# Altium schematic symbol library PartsDatabaseV16.1.SchLib: 101 symbols (part 1 of 2)
Pins are listed as number, name and electrical type; pins without a type are passive.

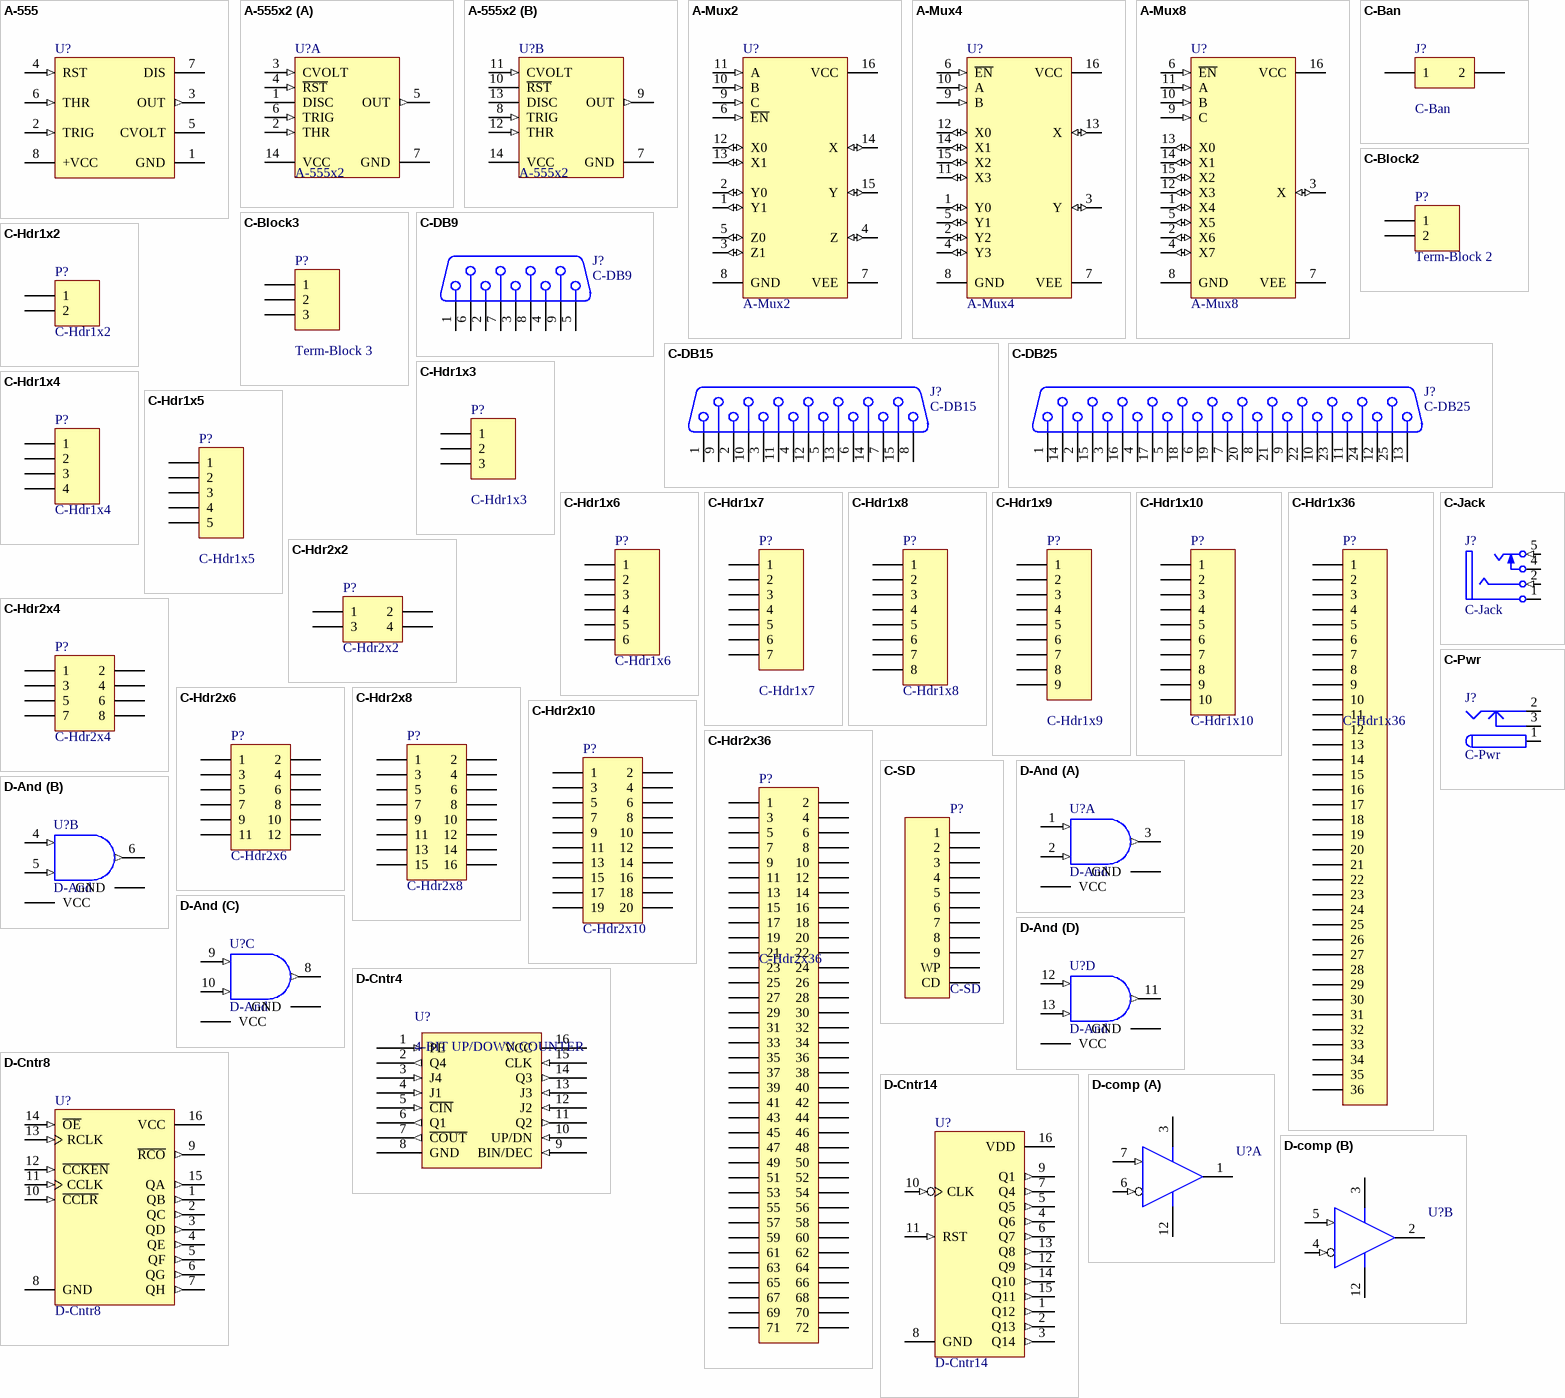
[diagram p0: symbols A-555 to D-comp]

## A-555
designator U?
555 timer (single); PartNumber: LM555CN; Manufacturer: FairChild Semiconductor; CompType: Analog IC; PackageTopMarking: NSUZXYTT*LM*555CN; PowerWise: N; Published: 4-Dec-2008; DatasheetVersion: Jan-2013; PackageVersion: revG, May-2006; PackageReference: N08E; Publisher: Altium Limited; PackageDescription: MDIP, .365 x .250 x .130in, 8 Lead, .100in Pitch; PinCount: 8; DigiKeyPartNumber: LM555CNNS-ND; Code_JEDEC: MS-001-BA; ComponentLink2Description: LM555 Web Page; ComponentLink2URL: http://www.national.com/pf/LM/LM555.html; ComponentLink3Description: N08E package page; ComponentLink3URL: http://www.national.com/packaging/folders/n08e.html; ComponentLink1Description: LM555 Datasheet (ELEC391); ComponentLink1URL: https://www.fairchildsemi.com/datasheets/LM/LM555.pdf
footprint DIP8_SML0.8 (DIP, 8-Leads, Row Spacing 7.62mm, Pitch 2.54mm, Body 9.91x6.35mm)
footprint DIP8_LGE1.0 (DIP, 8-Leads, Row Spacing 7.62mm, Pitch 2.54mm, Body 9.91x6.35mm)
simulation model 555 (555 MCE)
pins: 1 GND (power), 2 TRIG (in), 3 OUT (out), 4 RST (in), 5 CVOLT, 6 THR (in), 7 DIS (oc), 8 +VCC (power)

## A-555x2
designator U?
555 timer (dual); Published: 16-Jan-2001; LatestRevisionDate: 04-Mar-2005; LatestRevisionNote: Stylized 3D Model Added.; DatasheetVersion: Dec-1999; PackageVersion: Oct-1995; PackageReference: N014; Publisher: Altium Limited; PackageDescription: DIP; 14 Leads; Row Spacing 7.62 mm; Pitch 2.54 mm; ComponentLink1Description: Manufacturer Link; ComponentLink1URL: http://www.ti.com/; ComponentLink2Description: Datasheet (ELEC391); ComponentLink2URL: http://www-s.ti.com/sc/ds/ne556.pdf
footprint DIP14_SML0.8 (DIP; 14 Leads; Row Spacing 7.62 mm; Pitch 2.54 mm)
footprint DIP14_LGE1.0 (DIP; 14 Leads; Row Spacing 7.62 mm; Pitch 2.54 mm)
pins on every part: 7 GND (power), 14 VCC (power)
part A pins: 1 DISC (oc), 2 THR (in), 3 CVOLT (in), 4 ~{RST} (in), 5 OUT (out), 6 TRIG (in)
part B pins: 8 TRIG (in), 9 OUT (out), 10 ~{RST}, 11 CVOLT (in), 12 THR (in), 13 DISC (oc)

## A-Mux2
designator U?
Triple 2x1 mux (analog); Published: 17-Jul-2002; LatestRevisionDate: 29-May-2009; LatestRevisionNote: Component Body Added.; DatasheetVersion: May-1999; PackageVersion: 2000; PackageReference: N16E; Publisher: Altium Limited; PackageDescription: DIP, 16-Pin, Row Spacing 7.62 mm, Pitch 2.54 mm; ComponentLink1Description: Manufacturer Link; ComponentLink1URL: http://www.ti.com/; ComponentLink2Description: Datasheet (ELEC391); ComponentLink2URL: http://www.ti.com/lit/ds/symlink/cd74hc4051.pdf; ComponentLink3Description: DigiKey Information; ComponentLink3URL: http://www.digikey.ca/product-detail/en/texas-instruments/CD74HC4053E/296-9219-5-ND/376767
signal-integrity model MM74HC4053N
footprint DIP16_LGE1.0 (DIP; 16 Leads; Row Spacing 7.62 mm; Pitch 2.54 mm)
footprint DIP16_SML0.8 (DIP; 16 Leads; Row Spacing 7.62 mm; Pitch 2.54 mm)
pins: 1 Y1 (io), 2 Y0 (io), 3 Z1 (io), 4 Z (io), 5 Z0 (io), 6 ~{EN} (in), 7 VEE (power), 8 GND (power), 9 C (in), 10 B (in), 11 A (in), 12 X0 (io), 13 X1 (io), 14 X (io), 15 Y (io), 16 VCC (power)

## A-Mux4
designator U?
Dual 4x1 mux (analog); Published: 17-Jul-2002; LatestRevisionDate: 29-May-2009; LatestRevisionNote: Component Body Added.; DatasheetVersion: May-1999; PackageVersion: 2000; PackageReference: N16E; Publisher: Altium Limited; PackageDescription: DIP, 16-Pin, Row Spacing 7.62 mm, Pitch 2.54 mm; ComponentLink1Description: Manufacturer; ComponentLink1URL: Texas Instruments; DigiKey Part Number: 296-9217-5-ND; ComponentLink2Description: Datasheet (ELEC391); ComponentLink2URL: http://www.ti.com/lit/ds/symlink/cd74hc4051.pdf
signal-integrity model MM74HC4052N
footprint DIP16_LGE1.0 (DIP; 16 Leads; Row Spacing 7.62 mm; Pitch 2.54 mm)
footprint DIP16_SML0.8 (DIP; 16 Leads; Row Spacing 7.62 mm; Pitch 2.54 mm)
pins: 1 Y0 (io), 2 Y2 (io), 3 Y (io), 4 Y3 (io), 5 Y1 (io), 6 ~{EN} (in), 7 VEE (power), 8 GND (power), 9 B (in), 10 A (in), 11 X3 (io), 12 X0 (io), 13 X (io), 14 X1 (io), 15 X2 (io), 16 VCC (power)

## A-Mux8
designator U?
Published: 17-Jul-2002; LatestRevisionDate: 29-May-2009; LatestRevisionNote: Component Body Added.; DatasheetVersion: May-1999; PackageVersion: 2000; PackageReference: N16E; Publisher: Altium Limited; PackageDescription: DIP, 16-Pin, Row Spacing 7.62 mm, Pitch 2.54 mm; ComponentLink1Description: Manufacturer Link; ComponentLink1URL: http://www.fairchildsemi.com/; DigiKey Part Number: 296-12810-5-ND; ComponentLink2Description: Datasheet (ELEC391); ComponentLink2URL: http://www.ti.com/lit/ds/symlink/cd74hc4051.pdf
signal-integrity model MM74HC4051N
footprint DIP16_LGE1.0 (DIP; 16 Leads; Row Spacing 7.62 mm; Pitch 2.54 mm)
footprint DIP16_SML0.8 (DIP; 16 Leads; Row Spacing 7.62 mm; Pitch 2.54 mm)
pins: 1 X4 (io), 2 X6 (io), 3 X (io), 4 X7 (io), 5 X5 (io), 6 ~{EN} (in), 7 VEE (power), 8 GND (power), 9 C (in), 10 B (in), 11 A (in), 12 X3 (io), 13 X0 (io), 14 X1 (io), 15 X2 (io), 16 VCC (power)

## C-Ban
designator J?
Banana plug fem; LatestRevisionDate: 17-Jul-2002; LatestRevisionNote: Re-released for DXP Platform.; Publisher: Altium Limited; ComponentLink1URL: https://cinchconnectivity.com/OA_MEDIA/specs/pi-105-0757-001.pdf; ComponentLink1Description: Datasheet (ELEC391); ComponentLink2URL: https://cinchconnectivity.com/OA_MEDIA/specs/pi-105-0753-001.pdf; ComponentLink3URL: https://cinchconnectivity.com/OA_MEDIA/specs/pi-105-0752-001.pdf; ComponentLink2Description: Datasheet (ELEC391); ComponentLink3Description: Datasheet (ELEC391)
signal-integrity model Connector
footprint Ban1cm_2XLGE1.5 (Banana plug fem, Thru-Hole; 2 Leads)
pins: 1, 2

## C-Block2
designator P?, comment Term-Block 2
Terminal-Block 1x2; LatestRevisionDate: 17-Jul-2002; LatestRevisionNote: Re-released for DXP Platform.; Publisher: Altium Limited
signal-integrity model Connector
footprint TERM-BLOCK-5.08MM-2POS (TERM BLOCK 5.08MM VERT 2POS PCB)
pins: 1, 2

## C-Block3
designator P?, comment Term-Block 3
Terminal-Block 1x3; LatestRevisionDate: 17-Jul-2002; LatestRevisionNote: Re-released for DXP Platform.; Publisher: Altium Limited
signal-integrity model Connector
footprint TERM-BLOCK-5.08MM-3POS (TERM BLOCK 5.08MM VERT 3POS PCB)
pins: 1, 2, 3

## C-DB9
designator J?
DB9 conn; PackageDocument: O; Positions: 9; Gender: Receptacle; Published: 15-Jun-2001; LatestRevisionDate: 17-Jul-2002; LatestRevisionNote: Re-released for DXP Platform.; DatasheetDocument: 1-Sep-1999; PackageReference: 788750; Publisher: Altium Limited; Orientation: Right Angle; ComponentLink1URL: http://portal.fciconnect.com/Comergent//fci/drawing/c01-8646-0281.pdf; ComponentLink1Description: Datasheet - Male - (ELEC391)
signal-integrity model Connector
footprint DSUB-2H9_LGE1.0 (Connector; D Subminiature; 9 Position; Pitch 1.37 mm)
footprint DSUB-2H9_SML0.8 (Connector; D Subminiature; 9 Position; Pitch 1.37 mm)
pins: 1, 2, 3, 4, 5, 6, 7, 8, 9

## C-DB15
designator J?
DB15 conn; PackageDocument: O; Positions: 15; Gender: Receptacle; Published: 15-Jun-2001; LatestRevisionDate: 17-Jul-2002; LatestRevisionNote: Re-released for DXP Platform.; DatasheetDocument: 1-Sep-99; PackageReference: 788757; Publisher: Altium Limited; Orientation: Right Angle; ComponentLink1URL: http://www.te.com/commerce/DocumentDelivery/DDEController?Action=srchrtrv&DocNm=5208007&DocType=Customer+Drawing&DocLang=English; ComponentLink1Description: Datasheet - Male - (ELEC391); ComponentLink2Description: Datasheet - Female - (ELEC391); ComponentLink2URL: http://www.te.com/commerce/DocumentDelivery/DDEController?Action=srchrtrv&DocNm=5207827&DocType=Customer+Drawing&DocLang=English
signal-integrity model Connector
footprint DSUB-2H15_LGE1.0 (Connector; D Subminiature; 15 Position; Pitch 1.37mm)
footprint DSUB-2H15_SML0.8 (Connector; D Subminiature; 15 Position; Pitch 1.37 mm)
pins: 1, 2, 3, 4, 5, 6, 7, 8, 9, 10, 11, 12, 13, 14, 15

## C-DB25
designator J?
DB25 conn; PackageDocument: U; Positions: 25; Gender: Receptacle; Published: 15-Jun-2001; LatestRevisionDate: 17-Jul-2002; LatestRevisionNote: Re-released for DXP Platform.; DatasheetDocument: 19-Mar-1999; PackageReference: 787202; Publisher: Altium Limited; Orientation: Right Angle; ComponentLink1URL: http://www.te.com/commerce/DocumentDelivery/DDEController?Action=srchrtrv&DocNm=5208008&DocType=Customer+Drawing&DocLang=English; ComponentLink1Description: Datasheet - Male - (ELEC391); ComponentLink2Description: Datasheet - Female - (ELEC391); ComponentLink2URL: http://www.te.com/commerce/DocumentDelivery/DDEController?Action=srchrtrv&DocNm=5207828&DocType=Customer+Drawing&DocLang=English
signal-integrity model Connector
footprint DSUB-2H25_LGE1.0 (Connector; D Subminiature; 25 Position; Pitch 1.37 mm)
footprint DSUB-2H25_SML0.8 (Connector; D Subminiature; 25 Position; Pitch 1.37 mm)
pins: 1, 2, 3, 4, 5, 6, 7, 8, 9, 10, 11, 12, 13, 14, 15, 16, 17, 18, 19, 20, 21, 22, 23, 24, 25

## C-Hdr1x2
designator P?
Header, 2-Pin; LatestRevisionDate: 17-Jul-2002; LatestRevisionNote: Re-released for DXP Platform.; Publisher: Altium Limited
signal-integrity model Connector
footprint HDR1X2_LGE1.0 (Connector; Header; 2 Position)
pins: 1, 2

## C-Hdr1x3
designator P?
Header, 4-Pin; LatestRevisionDate: 17-Jul-2002; LatestRevisionNote: Re-released for DXP Platform.; Publisher: Altium Limited
signal-integrity model Connector
footprint HDR1X3_LGE1.0 (Connector; Header; 4 Position)
pins: 1, 2, 3

## C-Hdr1x4
designator P?
Header, 4-Pin; LatestRevisionDate: 17-Jul-2002; LatestRevisionNote: Re-released for DXP Platform.; Publisher: Altium Limited
signal-integrity model Connector
footprint HDR1X4_LGE1.0 (Connector; Header; 4 Position)
pins: 1, 2, 3, 4

## C-Hdr1x5
designator P?
Header, 6-Pin; LatestRevisionDate: 17-Jul-2002; LatestRevisionNote: Re-released for DXP Platform.; Publisher: Altium Limited
signal-integrity model Connector
footprint HDR1X5_LGE1.0 (Connector; Header; 6 Position)
pins: 1, 2, 3, 4, 5

## C-Hdr1x6
designator P?
Header, 6-Pin; LatestRevisionDate: 17-Jul-2002; LatestRevisionNote: Re-released for DXP Platform.; Publisher: Altium Limited
signal-integrity model Connector
footprint HDR1X6_LGE1.0 (Connector; Header; 6 Position)
pins: 1, 2, 3, 4, 5, 6

## C-Hdr1x7
designator P?
Header, 7-Pin; LatestRevisionDate: 17-Jul-2002; LatestRevisionNote: Re-released for DXP Platform.; Publisher: Altium Limited
signal-integrity model Connector
footprint HDR1X7_LGE1.0 (Connector; Header; 8 Position)
pins: 1, 2, 3, 4, 5, 6, 7

## C-Hdr1x8
designator P?
Header, 8-Pin; LatestRevisionDate: 17-Jul-2002; LatestRevisionNote: Re-released for DXP Platform.; Publisher: Altium Limited
signal-integrity model Connector
footprint HDR1X8_LGE1.0 (Connector; Header; 8 Position)
pins: 1, 2, 3, 4, 5, 6, 7, 8

## C-Hdr1x9
designator P?
Header, 10-Pin; LatestRevisionDate: 17-Jul-2002; LatestRevisionNote: Re-released for DXP Platform.; Publisher: Altium Limited
signal-integrity model Connector
footprint HDR1X9_LGE1.0 (Connector; Header; 10 Position)
pins: 1, 2, 3, 4, 5, 6, 7, 8, 9

## C-Hdr1x10
designator P?
Header, 10-Pin; LatestRevisionDate: 17-Jul-2002; LatestRevisionNote: Re-released for DXP Platform.; Publisher: Altium Limited
signal-integrity model Connector
footprint HDR1X10_LGE1.0 (Connector; Header; 10 Position)
pins: 1, 2, 3, 4, 5, 6, 7, 8, 9, 10

## C-Hdr1x36
designator P?
Header, 36-Pin; LatestRevisionDate: 17-Jul-2002; LatestRevisionNote: Re-released for DXP Platform.; Publisher: Altium Limited
signal-integrity model Connector
footprint HDR1X36_LGE1.0 (Connector; Header; 36 Position)
pins: 1, 2, 3, 4, 5, 6, 7, 8, 9, 10, 11, 12, 13, 14, 15, 16, 17, 18, 19, 20, 21, 22, 23, 24, 25, 26, 27, 28, 29, 30, 31, 32, 33, 34, 35, 36

## C-Hdr2x2
designator P?
Header, 2-Pin, Dual row; LatestRevisionDate: 17-Jul-2002; LatestRevisionNote: Re-released for DXP Platform.; Publisher: Altium Limited
signal-integrity model Connector
footprint HDR2X2_LGE1.0 (Connector; Header; 2x2 Position)
pins: 1, 2, 3, 4

## C-Hdr2x4
designator P?
Header, 4-Pin, Dual row; LatestRevisionDate: 17-Jul-2002; LatestRevisionNote: Re-released for DXP Platform.; Publisher: Altium Limited
signal-integrity model Connector
footprint HDR2X4_LGE1.0 (Connector; Header; 4x2 Position)
pins: 1, 2, 3, 4, 5, 6, 7, 8

## C-Hdr2x6
designator P?
Header, 6-Pin, Dual row; LatestRevisionDate: 17-Jul-2002; LatestRevisionNote: Re-released for DXP Platform.; Publisher: Altium Limited
signal-integrity model Connector
footprint HDR2X6_LGE1.0 (Connector; Header; 6x2 Position)
pins: 1, 2, 3, 4, 5, 6, 7, 8, 9, 10, 11, 12

## C-Hdr2x8
designator P?
Header, 8-Pin, Dual row; LatestRevisionDate: 17-Jul-2002; LatestRevisionNote: Re-released for DXP Platform.; Publisher: Altium Limited
signal-integrity model Connector
footprint HDR2X8_LGE1.0 (Connector; Header; 8x2 Position)
pins: 1, 2, 3, 4, 5, 6, 7, 8, 9, 10, 11, 12, 13, 14, 15, 16

## C-Hdr2x10
designator P?
Header, 10-Pin, Dual row; LatestRevisionDate: 17-Jul-2002; LatestRevisionNote: Re-released for DXP Platform.; Publisher: Altium Limited
signal-integrity model Connector
footprint HDR2X10_LGE1.0 (Connector; Header; 10x2 Position)
pins: 1, 2, 3, 4, 5, 6, 7, 8, 9, 10, 11, 12, 13, 14, 15, 16, 17, 18, 19, 20

## C-Hdr2x36
designator P?
Header, 36-Pin, Dual row; LatestRevisionDate: 17-Jul-2002; LatestRevisionNote: Re-released for DXP Platform.; Publisher: Altium Limited
signal-integrity model Connector
footprint HDR2X36_LGE1.0 (Connector; Header; 36x2 Position)
pins: 1, 2, 3, 4, 5, 6, 7, 8, 9, 10, 11, 12, 13, 14, 15, 16, 17, 18, 19, 20, 21, 22, 23, 24, 25, 26, 27, 28, 29, 30, 31, 32, 33, 34, 35, 36, 37, 38, 39, 40, 41, 42, 43, 44, 45, 46, 47, 48, 49, 50, 51, 52, 53, 54, 55, 56, 57, 58, 59, 60, 61, 62, 63, 64, 65, 66, 67, 68, 69, 70, 71, 72

## C-Jack
designator J?
Jack Socket, Thru-Hole; PackageDocument: 2003; PCB_Layout: Complies with manufacturer's recommendation.; DrillAndSlotSize: Corresponds to nominal value.; Published: 15-Jul-2004; DatasheetDocument: 2003; PackageReference: S1VS_SSB; Publisher: Altium Limited; ComponentLink1Description: Manufacturer Link; ComponentLink1URL: http://www.cliffuk.co.uk/
signal-integrity model JACK Socket
footprint AJ_XLGE1.2 (Audio Jack, PCB Mount)
pins: 1 S (power) "Sleeve (Ground)", 2 R (in) "Ring/Right Channel/(-)", 4 "Tip Normal (Break Contact)", 5 T (in) "Tip/Left Channel/(+)"

## C-Pwr
designator J?
Low Voltage Power Supply Connector; Published: 17-Dec-2003; DatasheetDocument: 09-May-2002; Publisher: Altium Limited; ComponentLink1Description: Manufacturer Link; ComponentLink1URL: http://domino.kycon.com/internet/Products.html; ComponentLink2URL: http://www.cui.com/product/resource/pj-102a.pdf; ComponentLink2Description: Datasheet (ELEC391)
signal-integrity model Connector
footprint KLD_XLGE1.2 (DC Power Jack, PCB Mount)
pins: 1 (power), 2 (power), 3 (power)

## C-SD
designator P?
SD card connector; LatestRevisionDate: 17-Jul-2002; LatestRevisionNote: Re-released for DXP Platform.; Publisher: Altium Limited; ComponentLink1URL: http://www.kyocera-connector.com/en/wp-content/uploads/2015/12/5638.pdf; ComponentLink1Description: Datasheet (ELEC391)
signal-integrity model Connector
footprint SD_XSML0.6 (SD card, surface mount)
pins: 1, 2, 3, 4, 5, 6, 7, 8, 9, 10 WP, 11 CD

## D-And
designator U?
Quad 2-input AND gate; Published: 8-Jun-2000; LatestRevisionDate: 04-Mar-2005; LatestRevisionNote: Stylized 3D Model Added.; DatasheetVersion: Oct-1993; PackageVersion: Oct-1995; PackageReference: N014; Publisher: Altium Limited; PackageDescription: DIP; 14 Leads; Row Spacing 7.62 mm; Pitch 2.54 mm; ComponentLink1Description: Manufacturer Link; ComponentLink1URL: http://www.ti.com/; ComponentLink2Description: Datasheet; ComponentLink2URL: http://www-s.ti.com/sc/ds/SN74F08.pdf; ComponentLink3URL: http://www.ti.com/lit/ds/symlink/cd74hct08.pdf; ComponentLink3Description: Datasheet (ELEC391)
signal-integrity model SN74F08N
footprint DIP14_LGE1.0 (DIP; 14 Leads; Row Spacing 7.62 mm; Pitch 2.54 mm)
footprint DIP14_SML0.8 (DIP; 14 Leads; Row Spacing 7.62 mm; Pitch 2.54 mm)
simulation model SN74F08 (Texas Instruments)
pins on every part: 7 GND (power), 14 VCC (power)
part A pins: 1 A (in), 2 B (in), 3 Y (out)
part B pins: 4 A (in), 5 B (in), 6 Y (out)
part C pins: 8 Y (out), 9 A (in), 10 B (in)
part D pins: 11 Y (out), 12 A (in), 13 B (in)

## D-Cntr4
designator U?, comment 4-BIT UP/DOWN COUNTER
ComponentLink1URL: http://www.ti.com/lit/ds/symlink/cd4029b.pdf; ComponentLink1Description: Datasheet (ELEC391)
footprint DIP16_LGE1.0 (DIP; 16 Leads; Row Spacing 7.62 mm; Pitch 2.54 mm)
footprint DIP16_SML0.8 (DIP; 16 Leads; Row Spacing 7.62 mm; Pitch 2.54 mm)
simulation model CD4029B (SIMCODE)
pins: 1 PE (in), 2 Q4 (out), 3 J4 (in), 4 J1 (in), 5 ~{CIN} (in), 6 Q1 (out), 7 ~{COUT} (out), 8 GND (power), 9 BIN/DEC (in), 10 UP/DN (in), 11 Q2 (out), 12 J2 (in), 13 J3 (in), 14 Q3 (out), 15 CLK (in), 16 VCC (power)

## D-Cntr8
designator U?
8-bit counter; Published: 8-Jun-2000; LatestRevisionDate: 04-Mar-2005; LatestRevisionNote: Stylized 3D Model Added.; DatasheetVersion: May-1997; PackageVersion: Oct-1995; PackageReference: N016; Publisher: Altium Limited; PackageDescription: DIP; 16 Leads; Row Spacing 7.62 mm; Pitch 2.54 mm; Code_JEDEC: MS-001-BB; ComponentLink1Description: Manufacturer Link; ComponentLink1URL: http://www.ti.com/; ComponentLink2Description: Datasheet (ELEC391); ComponentLink2URL: http://www.ti.com/lit/ds/symlink/sn74hc590a.pdf
signal-integrity model SN74HC590AN
footprint DIP16_LGE1.0 (DIP; 16 Leads; Row Spacing 7.62 mm; Pitch 2.54 mm)
footprint DIP16_SML0.8 (DIP; 16 Leads; Row Spacing 7.62 mm; Pitch 2.54 mm)
simulation model 74HC590 (SIMCODE)
pins: 1 QB (out), 2 QC (out), 3 QD (out), 4 QE (out), 5 QF (out), 6 QG (out), 7 QH (out), 8 GND, 9 ~{RCO} (out), 10 ~{CCLR} (in), 11 CCLK (in), 12 ~{CCKEN} (in), 13 RCLK (in), 14 ~{OE} (in), 15 QA (out), 16 VCC

## D-Cntr14
designator U?
14 bit counter (hysteresis on clk); Published: 8-Jun-2000; LatestRevisionDate: 06-Jun-2005; LatestRevisionNote: Stylized 3D Model Added.; DatasheetVersion: Mar-1989; PackageVersion: Apr-1996; PackageReference: DIP16; Publisher: Altium Limited; PackageDescription: DIP; 16 Leads; Row Spacing 7.62 mm; Pitch 2.54 mm; ComponentLink1Description: Manufacturer Link; ComponentLink1URL: http://www.st.com/; ComponentLink2Description: Datasheet (ELEC391); ComponentLink2URL: http://www.mouser.com/ds/2/389/CD00002639-465532.pdf
footprint DIP16_LGE1.0 (DIP; 16 Leads; Row Spacing 7.62 mm; Pitch 2.54 mm)
footprint DIP16_SML0.8 (DIP; 16 Leads; Row Spacing 7.62 mm; Pitch 2.54 mm)
simulation model HCF4020 (ST Microelectronics)
pins: 1 Q12 (out), 2 Q13 (out), 3 Q14 (out), 4 Q6 (out), 5 Q5 (out), 6 Q7 (out), 7 Q4 (out), 8 GND (power), 9 Q1 (out), 10 CLK (in), 11 RST (in), 12 Q9 (out), 13 Q8 (out), 14 Q10 (out), 15 Q11 (out), 16 VDD (power)

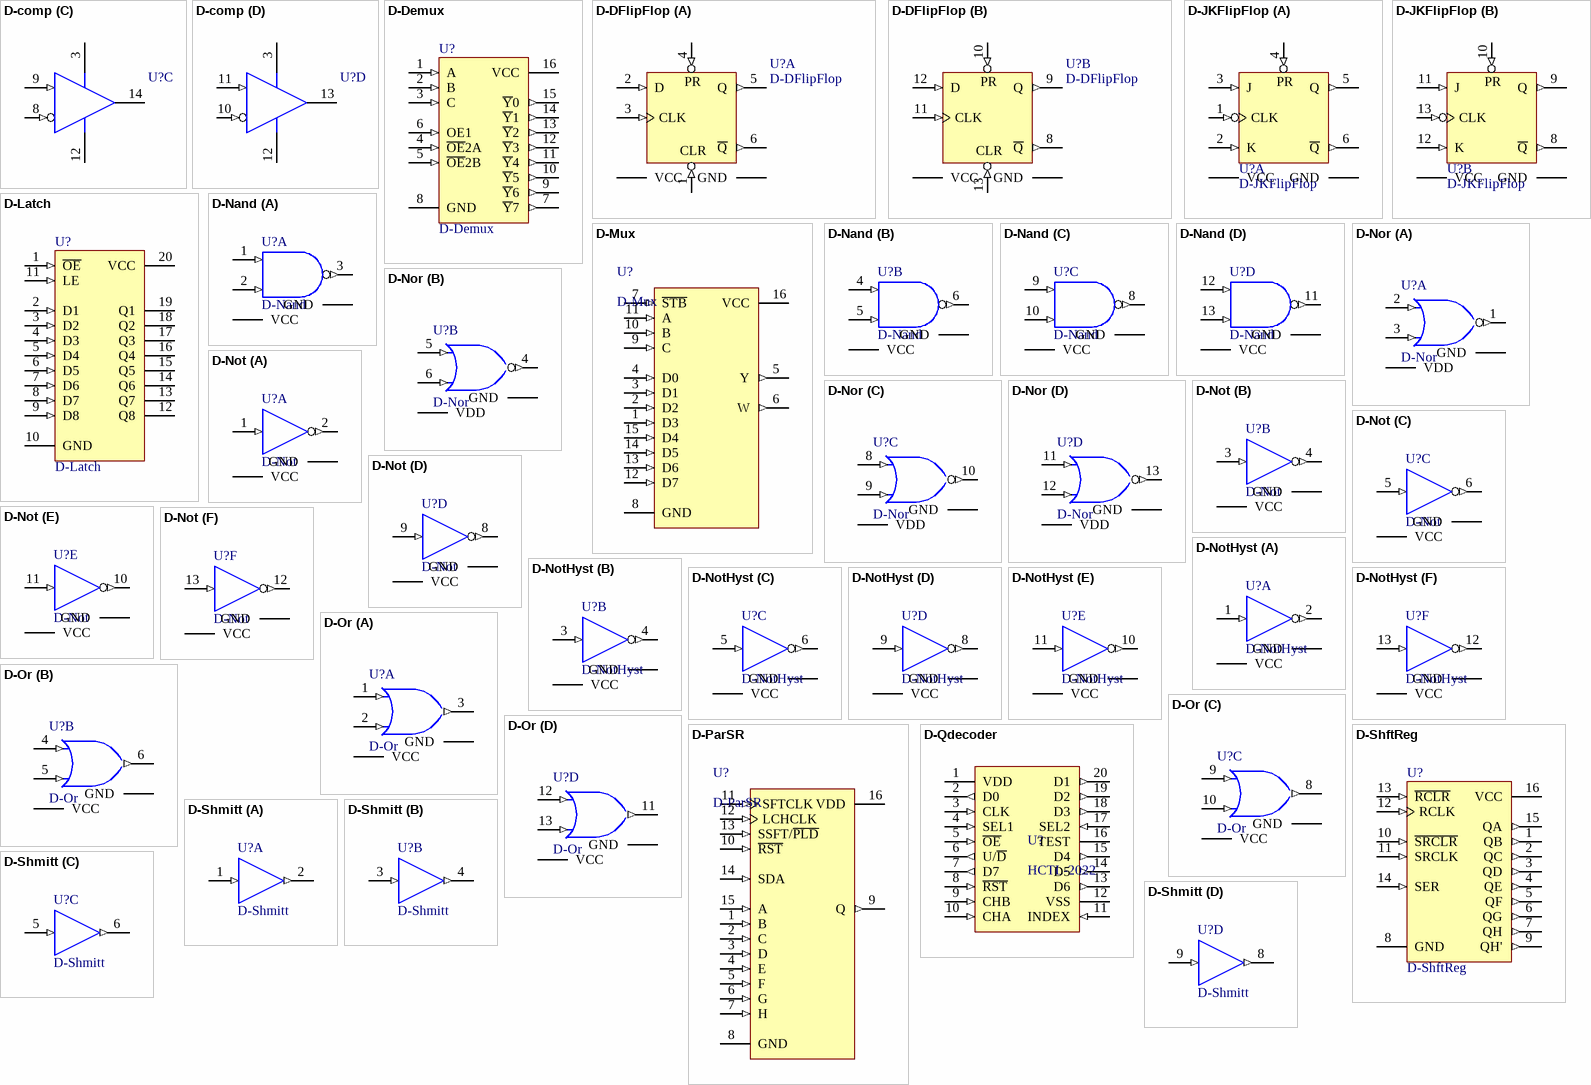
[diagram p1: symbols D-comp to D-Shmitt]

## D-comp
designator U?
Quad Differential Comparator; Published: 15-Apr-2002; LatestRevisionDate: 04-Mar-2005; LatestRevisionNote: Stylized 3D Model Added.; DatasheetVersion: Apr-1988; PackageVersion: Oct-1995; PackageReference: N014; Publisher: Altium Limited; PackageDescription: DIP; 14 Leads; Row Spacing 7.62 mm; Pitch 2.54 mm; ComponentLink1Description: Manufacturer Link; ComponentLink1URL: http://www.ti.com/; ComponentLink2Description: Datasheet; ComponentLink2URL: http://www-s.ti.com/sc/ds/lm139a.pdf; ComponentLink3URL: https://www.fairchildsemi.com/datasheets/LM/LM239A.pdf; ComponentLink3Description: Datasheet (ELEC391)
footprint DIP14_LGE1.0 (DIP; 14 Leads; Row Spacing 7.62 mm; Pitch 2.54 mm)
footprint DIP14_SML0.8 (DIP; 14 Leads; Row Spacing 7.62 mm; Pitch 2.54 mm)
simulation model LM339
pins on every part: 3 VCC (power), 12 GND (power)
part A pins: 1 OUT (oc), 6 IN- (in), 7 IN+ (in)
part B pins: 2 OUT (oc), 4 IN- (in), 5 IN+ (in)
part C pins: 8 IN- (in), 9 IN+ (in), 14 OUT (oc)
part D pins: 10 IN- (in), 11 IN+ (in), 13 OUT (oc)

## D-Demux
designator U?
Published: 8-Jun-2000; LatestRevisionDate: 04-Mar-2005; LatestRevisionNote: Stylized 3D Model Added.; DatasheetVersion: Jul-1996; PackageVersion: Oct-1995; PackageReference: N016; Publisher: Altium Limited; PackageDescription: DIP; 16 Leads; Row Spacing 7.62 mm; Pitch 2.54 mm; Code_JEDEC: MS-001-BB; ComponentLink1Description: Manufacturer Link; ComponentLink1URL: http://www.ti.com/; ComponentLink2Description: Datasheet; ComponentLink2URL: http://www-s.ti.com/sc/ds/sn74f138.pdf; ComponentLink3URL: http://www.ti.com/lit/ds/symlink/sn74hc138.pdf; ComponentLink3Description: Datasheet (ELEC391)
signal-integrity model SN74F138N
footprint DIP16_LGE1.0 (DIP; 16 Leads; Row Spacing 7.62 mm; Pitch 2.54 mm)
footprint DIP16_SML0.8 (DIP; 16 Leads; Row Spacing 7.62 mm; Pitch 2.54 mm)
simulation model SN74F138 (Texas Instruments)
pins: 1 A (in), 2 B (in), 3 C (in), 4 ~{OE}2A (in), 5 ~{OE}2B (in), 6 OE1 (in), 7 ~{Y}7 (out), 8 GND (power), 9 ~{Y}6 (out), 10 ~{Y}5 (out), 11 ~{Y}4 (out), 12 ~{Y}3 (out), 13 ~{Y}2 (out), 14 ~{Y}1 (out), 15 ~{Y}0 (out), 16 VCC (power)

## D-DFlipFlop
designator U?
Dual D flip-flop; Published: 8-Jun-2000; LatestRevisionDate: 04-Mar-2005; LatestRevisionNote: Stylized 3D Model Added.; DatasheetVersion: Oct-1993; PackageVersion: Jun-1999; PackageReference: J014; Publisher: Altium Limited; PackageDescription: DIP; 14 Leads; Row Spacing 7.62 mm; Pitch 2.54 mm; ComponentLink1Description: Manufacturer Link; ComponentLink1URL: http://www.ti.com/; ComponentLink2Description: Datasheet; ComponentLink2URL: http://www-s.ti.com/sc/ds/sn74f74.pdf; ComponentLink3URL: http://www.ti.com/lit/ds/symlink/sn74hct74.pdf; ComponentLink3Description: Datasheet (ELEC391)
signal-integrity model SN54F74J
footprint DIP14_LGE1.0 (DIP; 14 Leads; Row Spacing 7.62 mm; Pitch 2.54 mm)
footprint DIP14_SML0.8 (DIP; 14 Leads; Row Spacing 7.62 mm; Pitch 2.54 mm)
simulation model SN74F74 (Texas Instruments)
pins on every part: 7 GND (power), 14 VCC (power)
part A pins: 1 CLR (in), 2 D (in), 3 CLK (in), 4 PR (in), 5 Q (out), 6 ~{Q} (out)
part B pins: 8 ~{Q} (out), 9 Q (out), 10 PR (in), 11 CLK (in), 12 D (in), 13 CLR (in)

## D-JKFlipFlop
designator U?
Dual JK flip-flop; Published: 8-Jun-2000; LatestRevisionDate: 04-Mar-2005; LatestRevisionNote: Stylized 3D Model Added.; DatasheetVersion: Jan-1989; PackageVersion: Jun-1999; PackageReference: J014D; Publisher: Altium Limited; PackageDescription: DIP; 14 Leads; Row Spacing 7.62 mm; Pitch 2.54 mm; ComponentLink1Description: Manufacturer Link; ComponentLink1URL: http://www.ti.com/; ComponentLink2URL: http://www.ti.com/lit/ds/symlink/cd74hc73.pdf; ComponentLink2Description: Datasheet (ELEC391)
signal-integrity model SN54F113J
footprint DIP14_LGE1.0 (DIP; 14 Leads; Row Spacing 7.62 mm; Pitch 2.54 mm)
footprint DIP14_SML0.8 (DIP; 14 Leads; Row Spacing 7.62 mm; Pitch 2.54 mm)
simulation model SN74F113 (Texas Instruments)
pins on every part: 7 GND (power), 14 VCC (power)
part A pins: 1 CLK (in), 2 K (in), 3 J (in), 4 PR (in), 5 Q (out), 6 ~{Q} (out)
part B pins: 8 ~{Q} (out), 9 Q (out), 10 PR (in), 11 J (in), 12 K (in), 13 CLK (in)

## D-Latch
designator U?
Octal Latch; Published: 8-Jun-2000; LatestRevisionDate: 04-Mar-2005; LatestRevisionNote: Stylized 3D Model Added.; DatasheetVersion: Jun-1989; PackageVersion: Oct-1995; PackageReference: N020D; Publisher: Altium Limited; PackageDescription: DIP; 20 Leads; Row Spacing 7.62 mm; Pitch 2.54 mm; ComponentLink1Description: Manufacturer Link; ComponentLink1URL: http://www.ti.com/; ComponentLink2URL: http://www.ti.com/lit/ds/symlink/cd74hc573.pdf; ComponentLink2Description: Datasheet (ELEC391)
signal-integrity model SN74HC573N
footprint N020D_LGE1.0 (DIP; 20 Leads; Row Spacing 7.62 mm; Pitch 2.54 mm)
footprint N020D_SML0.8 (DIP; 20 Leads; Row Spacing 7.62 mm; Pitch 2.54 mm)
pins: 1 ~{OE} (in), 2 D1 (in), 3 D2 (in), 4 D3 (in), 5 D4 (in), 6 D5 (in), 7 D6 (in), 8 D7 (in), 9 D8 (in), 10 GND (power), 11 LE (in), 12 Q8 (hiz), 13 Q7 (hiz), 14 Q6 (hiz), 15 Q5 (hiz), 16 Q4 (hiz), 17 Q3 (hiz), 18 Q2 (hiz), 19 Q1 (hiz), 20 VCC (power)

## D-Mux
designator U?
74HC151; ComponentLink1URL: http://www.ti.com/lit/ds/symlink/sn74hc151.pdf; ComponentLink1Description: Datasheet (ELEC391)
footprint DIP16_LGE1.0 (DIP; 16 Leads; Row Spacing 7.62 mm; Pitch 2.54 mm)
simulation model 74HC151 (SIMCODE)
pins: 1 D3 (in), 2 D2 (in), 3 D1 (in), 4 D0 (in), 5 Y (out), 6 W (out), 7 ~{STB} (in), 8 GND (power), 9 C (in), 10 B (in), 11 A (in), 12 D7 (in), 13 D6 (in), 14 D5 (in), 15 D4 (in), 16 VCC (power)

## D-Nand
designator U?
Quad 2-input NAND gate; Published: 8-Jun-2000; LatestRevisionDate: 04-Mar-2005; LatestRevisionNote: Stylized 3D Model Added.; DatasheetVersion: Apr-1989; PackageVersion: Oct-1995; PackageReference: N014; Publisher: Altium Limited; PackageDescription: DIP; 14 Leads; Row Spacing 7.62 mm; Pitch 2.54 mm; ComponentLink1Description: Manufacturer Link; ComponentLink1URL: http://www.ti.com/; ComponentLink2Description: Datasheet; ComponentLink2URL: http://www-s.ti.com/sc/ds/sn74f37.pdf; ComponentLink3URL: http://www.ti.com/lit/ds/symlink/sn74hct00.pdf; ComponentLink3Description: Datasheet (ELEC391)
signal-integrity model SN74F37N
footprint DIP14_LGE1.0 (DIP; 14 Leads; Row Spacing 7.62 mm; Pitch 2.54 mm)
footprint DIP14_SML0.8 (DIP; 14 Leads; Row Spacing 7.62 mm; Pitch 2.54 mm)
simulation model SN74F37 (Texas Instruments)
pins on every part: 7 GND (power), 14 VCC (power)
part A pins: 1 A (in), 2 B (in), 3 Y (out)
part B pins: 4 A (in), 5 B (in), 6 Y (out)
part C pins: 8 Y (out), 9 A (in), 10 B (in)
part D pins: 11 Y (out), 12 A (in), 13 B (in)

## D-Nor
designator U?
Quad 2-input NOR gate; IC_Technology: C; Published: 17-Jul-2002; LatestRevisionDate: 29-May-2009; LatestRevisionNote: Component Body Added.; DatasheetVersion: Jan-1999; PackageVersion: 2000; PackageReference: N14A; Publisher: Altium Limited; PackageDescription: DIP, 14-Pin, Row Spacing 7.62 mm, Pitch 2.54 mm; ComponentLink1Description: Manufacturer Link; ComponentLink1URL: http://www.fairchildsemi.com/; ComponentLink2Description: Datasheet; ComponentLink2URL: http://www.fairchildsemi.com/ds/CD%2FCD4001BC.pdf; ComponentLink3URL: http://www.ti.com/lit/ds/symlink/sn74hct02.pdf; ComponentLink3Description: Datasheet (ELEC391)
footprint DIP14_LGE1.0 (DIP; 14 Leads; Row Spacing 7.62 mm; Pitch 2.54 mm)
footprint DIP14_SML0.8 (DIP; 14 Leads; Row Spacing 7.62 mm; Pitch 2.54 mm)
simulation model FSC_4001 (duplicate files: 2innor.mod, 2inputno.mod, 4001.mod)
pins on every part: 7 GND (power), 14 VDD (power)
part A pins: 1 J (out), 2 A (in), 3 B (in)
part B pins: 4 J (out), 5 A (in), 6 B (in)
part C pins: 8 A (in), 9 B (in), 10 J (out)
part D pins: 11 A (in), 12 B (in), 13 J (out)

## D-Not
designator U?
Hex NOT gate (inverter); Published: 8-Jun-2000; LatestRevisionDate: 04-Mar-2005; LatestRevisionNote: Stylized 3D Model Added.; DatasheetVersion: Mar-1988; PackageVersion: Oct-1995; PackageReference: N014; Publisher: Altium Limited; PackageDescription: DIP; 14 Leads; Row Spacing 7.62 mm; Pitch 2.54 mm; ComponentLink1Description: Manufacturer Link; ComponentLink1URL: http://www.ti.com/; ComponentLink2Description: Datasheet; ComponentLink2URL: http://www-s.ti.com/sc/ds/sn74ls04.pdf; ComponentLink3URL: http://media.digikey.com/pdf/Data%20Sheets/ST%20Microelectronics%20PDFS/M74HCT04.pdf; ComponentLink3Description: Datasheet (ELEC391)
signal-integrity model SN74LS04N
footprint DIP14_LGE1.0 (DIP; 14 Leads; Row Spacing 7.62 mm; Pitch 2.54 mm)
footprint DIP14_SML0.8 (DIP; 14 Leads; Row Spacing 7.62 mm; Pitch 2.54 mm)
simulation model SN74LS04 (Texas Instruments)
pins on every part: 7 GND (power), 14 VCC (power)
part A pins: 1 A (in), 2 Y (out)
part B pins: 3 A (in), 4 Y (out)
part C pins: 5 A (in), 6 Y (out)
part D pins: 8 Y (out), 9 A (in)
part E pins: 10 Y (out), 11 A (in)
part F pins: 12 Y (out), 13 A (in)

## D-NotHyst
designator U?
Hex NOT gate (with hystseresis); Published: 8-Jun-2000; LatestRevisionDate: 04-Mar-2005; LatestRevisionNote: Stylized 3D Model Added.; DatasheetVersion: Mar-1988; PackageVersion: Oct-1995; PackageReference: N014; Publisher: Altium Limited; PackageDescription: DIP; 14 Leads; Row Spacing 7.62 mm; Pitch 2.54 mm; ComponentLink1Description: Manufacturer Link; ComponentLink1URL: http://www.ti.com/; ComponentLink2Description: Datasheet; ComponentLink2URL: http://www-s.ti.com/sc/ds/sn74ls14.pdf; ComponentLink3URL: http://www.ti.com/lit/ds/symlink/sn74hct14.pdf; ComponentLink3Description: Datasheet (ELEC391)
signal-integrity model SN74LS14N
footprint DIP14_LGE1.0 (DIP; 14 Leads; Row Spacing 7.62 mm; Pitch 2.54 mm)
footprint DIP14_SML0.8 (DIP; 14 Leads; Row Spacing 7.62 mm; Pitch 2.54 mm)
simulation model SN74LS14 (Texas Instruments)
pins on every part: 7 GND (power), 14 VCC (power)
part A pins: 1 A (in), 2 Y (out)
part B pins: 3 A (in), 4 Y (out)
part C pins: 5 A (in), 6 Y (out)
part D pins: 8 Y (out), 9 A (in)
part E pins: 10 Y (out), 11 A (in)
part F pins: 12 Y (out), 13 A (in)

## D-Or
designator U?
Quad 2-input OR gate; Published: 8-Jun-2000; LatestRevisionDate: 04-Mar-2005; LatestRevisionNote: Stylized 3D Model Added.; DatasheetVersion: May-1999; PackageVersion: Oct-1995; PackageReference: N014; Publisher: Altium Limited; PackageDescription: DIP; 14 Leads; Row Spacing 7.62 mm; Pitch 2.54 mm; ComponentLink1Description: Manufacturer Link; ComponentLink1URL: http://www.ti.com/; ComponentLink2Description: Datasheet; ComponentLink2URL: http://www-s.ti.com/sc/ds/SN54F32.pdf; ComponentLink3URL: http://media.digikey.com/pdf/Data%20Sheets/ST%20Microelectronics%20PDFS/M74HCT32.pdf; ComponentLink3Description: Datasheet (ELEC391)
signal-integrity model SN74F32N
footprint DIP14_LGE1.0 (DIP; 14 Leads; Row Spacing 7.62 mm; Pitch 2.54 mm)
footprint DIP14_SML0.8 (DIP; 14 Leads; Row Spacing 7.62 mm; Pitch 2.54 mm)
simulation model SN74F32 (Texas Instruments)
pins on every part: 7 GND (power), 14 VCC (power)
part A pins: 1 A (in), 2 B (in), 3 Y (out)
part B pins: 4 A (in), 5 B (in), 6 Y (out)
part C pins: 8 Y (out), 9 A (in), 10 B (in)
part D pins: 11 Y (out), 12 A (in), 13 B (in)

## D-ParSR
designator U?
74HC597; ComponentLink1URL: http://www.ti.com/lit/ds/symlink/cd74hc597.pdf; ComponentLink1Description: Datasheet (ELEC391)
footprint DIP16_LGE1.0 (DIP; 16 Leads; Row Spacing 7.62 mm; Pitch 2.54 mm)
simulation model 74HC597 (SIMCODE)
pins: 1 B (in), 2 C (in), 3 D (in), 4 E (in), 5 F (in), 6 G (in), 7 H (in), 8 GND (power), 9 Q (out), 10 ~{RST} (in), 11 SFTCLK (in), 12 LCHCLK (in), 13 SSFT/~{PLD} (in), 14 SDA (in), 15 A (in), 16 VDD (power)

## D-Qdecoder
designator U?, comment HCTL-2022
Quadrature Decoder; ComponentLink1URL: http://media.digikey.com/pdf/Data%20Sheets/Avago%20PDFs/HCTL-2032,2022.pdf; ComponentLink1Description: Datasheet (ELEC391)
footprint IC_DIL_20pin (20-pin dual-in-line integrated circuit)
pins: 1 VDD (power), 2 D0 (out), 3 CLK (in), 4 SEL1 (in), 5 ~{OE} (in), 6 U/~{D} (out), 7 D7 (out), 8 ~{RST} (in), 9 CHB (in), 10 CHA (in), 11 INDEX (in), 12 VSS (power), 13 D6 (out), 14 D5 (out), 15 D4 (out), 16 TEST, 17 SEL2 (in), 18 D3 (out), 19 D2 (out), 20 D1 (out)

## D-ShftReg
designator U?
Shift Register (serial in / parallel out); Published: 8-Jun-2000; LatestRevisionDate: 04-Mar-2005; LatestRevisionNote: Stylized 3D Model Added.; DatasheetVersion: Feb-1998; PackageVersion: Oct-1995; PackageReference: N016; Publisher: Altium Limited; PackageDescription: DIP; 16 Leads; Row Spacing 7.62 mm; Pitch 2.54 mm; Code_JEDEC: MS-001-BB; ComponentLink1Description: Manufacturer Link; ComponentLink1URL: http://www.ti.com/; ComponentLink2Description: Datasheet; ComponentLink2URL: http://www-s.ti.com/sc/ds/sn74hc594.pdf; ComponentLink3URL: http://www.ti.com/lit/ds/symlink/sn74hc594.pdf; ComponentLink3Description: Datasheet (ELEC391)
signal-integrity model SN74HC594N
footprint DIP16_LGE1.0 (DIP; 16 Leads; Row Spacing 7.62 mm; Pitch 2.54 mm)
footprint DIP16_SML0.8 (DIP; 16 Leads; Row Spacing 7.62 mm; Pitch 2.54 mm)
simulation model 74HC594 (SIMCODE)
pins: 1 QB (out), 2 QC (out), 3 QD (out), 4 QE (out), 5 QF (out), 6 QG (out), 7 QH (out), 8 GND (power), 9 QH' (out), 10 ~{SRCLR} (in), 11 SRCLK (in), 12 RCLK (in), 13 ~{RCLR} (in), 14 SER (in), 15 QA (out), 16 VCC (power)

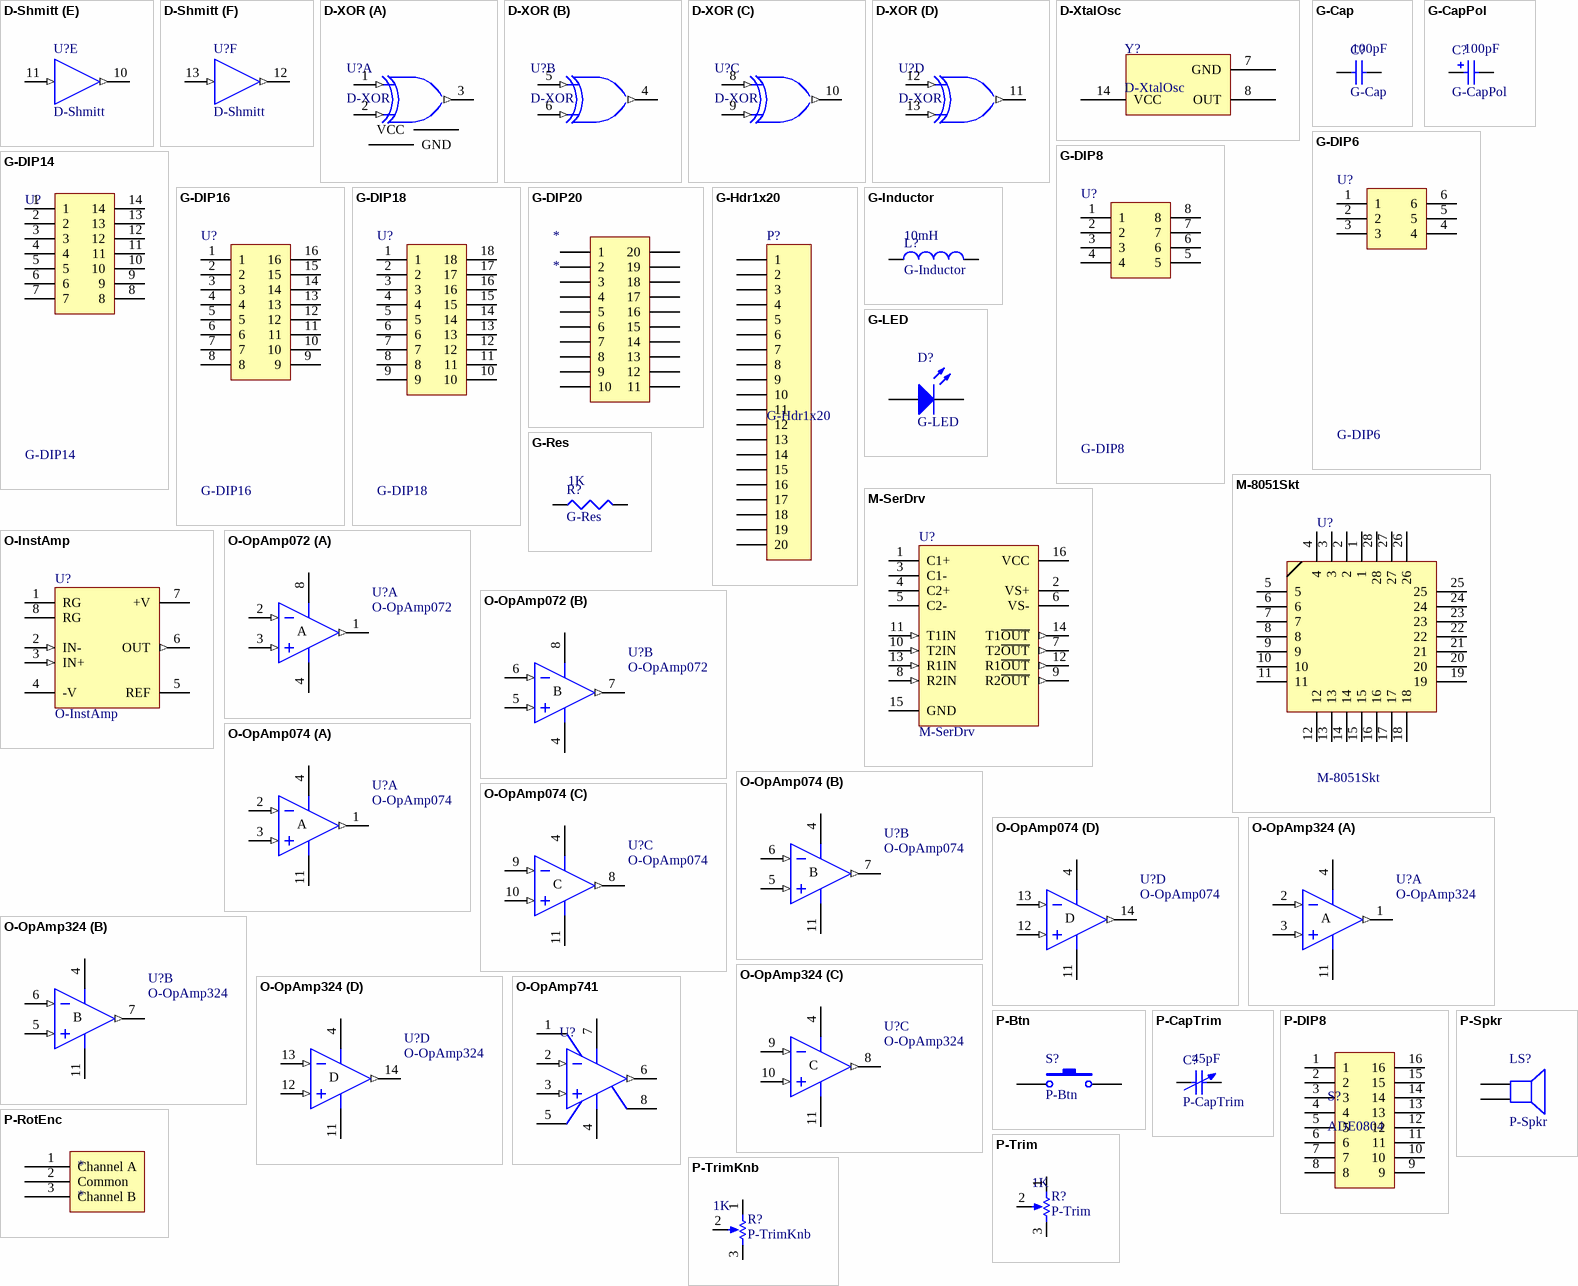
[diagram p2: symbols D-Shmitt to P-TrimKnb]

## D-Shmitt
designator U?
Shmitt Trigger (buffer w hysteresis); Published: 17-Jul-2002; LatestRevisionDate: 06-Jun-2005; LatestRevisionNote: Stylized 3D Model Added; DatasheetVersion: 1989; PackageReference: 632-08; Publisher: Altium Limited; PackageDescription: DIP; 14 Leads; Row Spacing 7.62 mm; Pitch 2.54 mm; ComponentLink1Description: Manufacturer Link; ComponentLink1URL: http://www.onsemi.com/site/products/parametrics/0,4446,247,00.html; ComponentLink2Description: Ibis Model; ComponentLink2URL: http://www.onsemi.com/pub/Collateral/MC54HC14AJ.IBS; ComponentLink3URL: http://www.nxp.com/documents/data_sheet/74HC7014.pdf; ComponentLink3Description: Datasheet (ELEC391)
signal-integrity model MC54HC14AJ
footprint DIP14_LGE1.0 (DIP; 14 Leads; Row Spacing 7.62 mm; Pitch 2.54 mm)
footprint DIP14_SML0.8 (DIP; 14 Leads; Row Spacing 7.62 mm; Pitch 2.54 mm)
pins on every part: 7 GND (power) hidden to GND, 14 VDD (power) hidden to VDD
part A pins: 1 A (in), 2 Y (out)
part B pins: 3 A (in), 4 Y (out)
part C pins: 5 A (in), 6 Y (out)
part D pins: 8 Y (out), 9 A (in)
part E pins: 10 Y (out), 11 A (in)
part F pins: 12 Y (out), 13 A (in)

## D-XOR
designator U?
CD4070B; ComponentLink1URL: http://www.nxp.com/documents/data_sheet/74HC_HCT86.pdf; ComponentLink1Description: Datasheet (ELEC391)
footprint DIP14_LGE1.0 (DIP; 14 Leads; Row Spacing 7.62 mm; Pitch 2.54 mm)
simulation model HCF4070 (ST Microelectronics)
part A pins: 1 A (in), 2 B (in), 3 J (out), 7 GND (power), 14 VCC (power)
part B pins: 4 K (out), 5 C (in), 6 D (in)
part C pins: 8 E (in), 9 F (in), 10 L (out)
part D pins: 11 M (out), 12 G (in), 13 H (in)

## D-XtalOsc
designator Y?
Crystal Oscillator; Published: 8-Jun-2000; LatestRevisionDate: 17-Jul-2002; LatestRevisionNote: Re-released for DXP Platform.; PackageReference: R38; Publisher: Altium Limited; ComponentLink1URL: http://www.ecsxtal.com/store/pdf/ecs_100.pdf; ComponentLink1Description: Datasheet (ELEC391)
footprint 4Lead Osc_LGE1.0 (Double-Pole, Single-Throw Switch; 4 Leads)
footprint 4Lead Osc_SML0.8 (Double-Pole, Single-Throw Switch; 4 Leads)
pins: 1 NC hidden, 7 GND, 8 OUT, 14 VCC

## G-Cap
designator C?  value 100pF
Capacitor (specify value); Published: 8-Jun-2000; LatestRevisionDate: 17-Jul-2002; LatestRevisionNote: Re-released for DXP Platform.; PackageReference: RAD-0.3; Publisher: Altium Limited
signal-integrity model Cap
footprint Cap2.1cm_LGE1.0 (Radial Cap, Thru-Hole; 2 Leads)
footprint Cap2.1cm_XLGE1.2 (Radial Cap, Thru-Hole; 2 Leads)
footprint Cap2.54mm_LGE1.0 (Capacitor, Ceramic, Thru-Hole, Dipped Radial; Body 5.1 x 3.2 mm (WxT) Pin Spacing 2.54 mm (typ))
footprint Cap2.54mm_SML0.8 (Capacitor, Ceramic, Thru-Hole, Dipped Radial; Body 5.1 x 3.2 mm (WxT) Pin Spacing 2.54 mm (typ))
footprint Cap5.08mm_LGE1.0 (Capacitor, Ceramic, Thru-Hole, Dipped Radial; Body 7.8 x 3.2 mm (WxT) Pin Spacing 5.08 mm (typ))
footprint Cap5.08mm_SML0.8 (Capacitor, Ceramic, Thru-Hole, Dipped Radial; Body 7.8 x 3.2 mm (WxT) Pin Spacing 5.08 mm (typ))
simulation model CAP (capacitor)
pins: 1, 2

## G-CapPol
designator C?  value 100pF
Polarized Capacitor (specify value); Published: 8-Jun-2000; LatestRevisionDate: 17-Jul-2002; LatestRevisionNote: Re-released for DXP Platform.; PackageReference: RB7.6-15; Publisher: Altium Limited
simulation model CAP (Capacitor)
signal-integrity model Cap Pol
footprint CapPol5mm_LGE1.0 (Capacitor, Electrolytic, Radial; Body 5 x 5 mm (Dia.xH typ); Pin Spacing 5 mm (typ))
footprint CapPol5mm_SML0.8 (Capacitor, Electrolytic, Radial; Body 5 x 5 mm (Dia.xH typ); Pin Spacing 5 mm (typ))
footprint CapPol7.5mm_LGE1.0 (Capacitor, Electrolytic, Radial; Body 16 x 35 mm (Dia.xH typ); Pin Spacing 7.5 mm (typ))
footprint CapPol7.5mm_SML0.8 (Capacitor, Electrolytic, Radial; Body 16 x 35 mm (Dia.xH typ); Pin Spacing 7.5 mm (typ))
footprint CapPol2mm_LGE1.0 (Capacitor, Electrolytic, Radial; Body 5 x 6.8 mm (Dia.xH typ); Pin Spacing 2 mm (typ))
footprint CapPol2mm_SML0.8 (Capacitor, Electrolytic, Radial; Body 5 x 6.8 mm (Dia.xH typ); Pin Spacing 2 mm (typ))
pins: 1, 2
1 alternate drawing of the same symbol

## G-DIP6
designator U?
6-pin DIP socket; Published: 13-Oct-2000; LatestRevisionDate: 17-Jul-2002; LatestRevisionNote: Re-released for DXP Platform.; DatasheetVersion: 19-Mar-1998; PackageVersion: Oct-1998; PackageReference: ISDIP28; Publisher: Altium Limited; PackageDescription: DIP; 28 Rectangular Pins; Row Space 15.24 mm; Pitch 2.54 mm; ComponentLink1Description: Manufacturer Link; ComponentLink1URL: http://www.maxim-ic.com/; ComponentLink2Description: Datasheet; ComponentLink2URL: http://pdfserv.maxim-ic.com/en/ds/DS1213B.pdf; ComponentLink3Description: Discontinuation Notice; ComponentLink3URL: http://www.maxim-ic.com/qa/pdfs/non-obsolescence-letter.pdf; ComponentLink4URL: http://multimedia.3m.com/mws/media/218496O/3mtm-dip-socket-4800-series-ts1099.pdf; ComponentLink4Description: Datasheet (ELEC391)
footprint ISDIP6_LGE1.0 (DIP; 8 Rectangular Pins; Row Space 7.62 mm; Pitch 2.54 mm)
footprint ISDIP6_LGE1.0-IC_INSERTED (DIP; 8 Rectangular Pins; Row Space 7.62 mm; Pitch 2.54 mm)
footprint ISDIP6_SML0.8 (DIP; 8 Rectangular Pins; Row Space 7.62 mm; Pitch 2.54 mm)
footprint ISDIP6_SML0.8-IC_INSERTED (DIP; 8 Rectangular Pins; Row Space 7.62 mm; Pitch 2.54 mm)
pins: 1, 2, 3, 4, 5, 6

## G-DIP8
designator U?
8-pin DIP socket; Published: 13-Oct-2000; LatestRevisionDate: 17-Jul-2002; LatestRevisionNote: Re-released for DXP Platform.; DatasheetVersion: 19-Mar-1998; PackageVersion: Oct-1998; PackageReference: ISDIP28; Publisher: Altium Limited; PackageDescription: DIP; 28 Rectangular Pins; Row Space 15.24 mm; Pitch 2.54 mm; ComponentLink1Description: Manufacturer Link; ComponentLink1URL: http://www.maxim-ic.com/; ComponentLink2Description: Datasheet; ComponentLink2URL: http://pdfserv.maxim-ic.com/en/ds/DS1213B.pdf; ComponentLink3Description: Discontinuation Notice; ComponentLink3URL: http://www.maxim-ic.com/qa/pdfs/non-obsolescence-letter.pdf; ComponentLink4URL: http://multimedia.3m.com/mws/media/218496O/3mtm-dip-socket-4800-series-ts1099.pdf; ComponentLink4Description: Datasheet (ELEC391)
footprint ISDIP8_LGE1.0 (DIP; 8 Rectangular Pins; Row Space 7.62 mm; Pitch 2.54 mm)
footprint ISDIP8_SML0.8 (DIP; 8 Rectangular Pins; Row Space 7.62 mm; Pitch 2.54 mm)
footprint ISDIP8_LGE1.0-IC_INSERTED (DIP; 8 Rectangular Pins; Row Space 7.62 mm; Pitch 2.54 mm)
footprint ISDIP8_SML0.8-IC_INSERTED (DIP; 8 Rectangular Pins; Row Space 7.62 mm; Pitch 2.54 mm)
pins: 1, 2, 3, 4, 5, 6, 7, 8

## G-DIP14
designator U?
14-pin DIP socket; Published: 13-Oct-2000; LatestRevisionDate: 17-Jul-2002; LatestRevisionNote: Re-released for DXP Platform.; DatasheetVersion: 19-Mar-1998; PackageVersion: Oct-1998; PackageReference: ISDIP28; Publisher: Altium Limited; PackageDescription: DIP; 28 Rectangular Pins; Row Space 15.24 mm; Pitch 2.54 mm; ComponentLink1Description: Manufacturer Link; ComponentLink1URL: http://www.maxim-ic.com/; ComponentLink2Description: Datasheet; ComponentLink2URL: http://pdfserv.maxim-ic.com/en/ds/DS1213B.pdf; ComponentLink3Description: Discontinuation Notice; ComponentLink3URL: http://www.maxim-ic.com/qa/pdfs/non-obsolescence-letter.pdf; ComponentLink4URL: http://multimedia.3m.com/mws/media/218496O/3mtm-dip-socket-4800-series-ts1099.pdf; ComponentLink4Description: Datasheet (ELEC391)
footprint ISDIP14_LGE1.0 (DIP; 14 Rectangular Pins; Row Space 7.62 mm; Pitch 2.54 mm)
footprint ISDIP14_SML0.8 (DIP; 14 Rectangular Pins; Row Space 7.62 mm; Pitch 2.54 mm)
footprint ISDIP14_LGE1.0-IC_INSERTED (DIP; 14 Rectangular Pins; Row Space 7.62 mm; Pitch 2.54 mm)
footprint ISDIP14_SML0.8-IC_INSERTED (DIP; 14 Rectangular Pins; Row Space 7.62 mm; Pitch 2.54 mm)
pins: 1, 2, 3, 4, 5, 6, 7, 8, 9, 10, 11, 12, 13, 14

## G-DIP16
designator U?
16-pin DIP socket; Published: 13-Oct-2000; LatestRevisionDate: 17-Jul-2002; LatestRevisionNote: Re-released for DXP Platform.; DatasheetVersion: 19-Mar-1998; PackageVersion: Oct-1998; PackageReference: ISDIP28; Publisher: Altium Limited; PackageDescription: DIP; 28 Rectangular Pins; Row Space 15.24 mm; Pitch 2.54 mm; ComponentLink1Description: Manufacturer Link; ComponentLink1URL: http://www.maxim-ic.com/; ComponentLink2Description: Datasheet; ComponentLink2URL: http://pdfserv.maxim-ic.com/en/ds/DS1213B.pdf; ComponentLink3Description: Discontinuation Notice; ComponentLink3URL: http://www.maxim-ic.com/qa/pdfs/non-obsolescence-letter.pdf; ComponentLink4URL: http://multimedia.3m.com/mws/media/218496O/3mtm-dip-socket-4800-series-ts1099.pdf; ComponentLink4Description: Datasheet (ELEC391)
footprint ISDIP16_LGE1.0 (DIP; 16 Rectangular Pins; Row Space 7.62 mm; Pitch 2.54 mm)
footprint ISDIP16_SML0.8 (DIP; 16 Rectangular Pins; Row Space 7.62 mm; Pitch 2.54 mm)
footprint ISDIP16_LGE1.0-IC_INSERTED (DIP; 16 Rectangular Pins; Row Space 7.62 mm; Pitch 2.54 mm)
footprint ISDIP16_SML0.8-IC_INSERTED (DIP; 16 Rectangular Pins; Row Space 7.62 mm; Pitch 2.54 mm)
pins: 1, 2, 3, 4, 5, 6, 7, 8, 9, 10, 11, 12, 13, 14, 15, 16

## G-DIP18
designator U?
18-pin DIP socket; Published: 13-Oct-2000; LatestRevisionDate: 17-Jul-2002; LatestRevisionNote: Re-released for DXP Platform.; DatasheetVersion: 19-Mar-1998; PackageVersion: Oct-1998; PackageReference: ISDIP28; Publisher: Altium Limited; PackageDescription: DIP; 28 Rectangular Pins; Row Space 15.24 mm; Pitch 2.54 mm; ComponentLink1Description: Manufacturer Link; ComponentLink1URL: http://www.maxim-ic.com/; ComponentLink2Description: Datasheet; ComponentLink2URL: http://pdfserv.maxim-ic.com/en/ds/DS1213B.pdf; ComponentLink3Description: Discontinuation Notice; ComponentLink3URL: http://www.maxim-ic.com/qa/pdfs/non-obsolescence-letter.pdf; ComponentLink4URL: http://multimedia.3m.com/mws/media/218496O/3mtm-dip-socket-4800-series-ts1099.pdf; ComponentLink4Description: Datasheet (ELEC391)
pins: 1, 2, 3, 4, 5, 6, 7, 8, 9, 10, 11, 12, 13, 14, 15, 16, 17, 18

## G-DIP20
designator *
20-pin DIP socket
footprint DIP20
pins: 1, 2, 3, 4, 5, 6, 7, 8, 9, 10, 11, 12, 13, 14, 15, 16, 17, 18, 19, 20

## G-Hdr1x20
designator P?
Header, 20-Pin; LatestRevisionDate: 17-Jul-2002; LatestRevisionNote: Re-released for DXP Platform.; Publisher: Altium Limited
signal-integrity model Connector
footprint HDR1X20_LGE1.0 (Connector; Header; 20 Position)
pins: 1, 2, 3, 4, 5, 6, 7, 8, 9, 10, 11, 12, 13, 14, 15, 16, 17, 18, 19, 20

## G-Inductor
designator L?  value 10mH
Inductor; Code_IEC: 1005; Published: 8-Jun-2000; LatestRevisionDate: 29-May-2009; LatestRevisionNote: IPC-7351 Footprint Added.; PackageReference: 0402-A; Publisher: Altium Limited; PackageDescription: Chip Inductor; Code_JEITA: 0402
simulation model INDUCTOR (Inductor)
signal-integrity model Inductor
footprint Ind10mm_LGE1.0 (Thru-Hole; 2 Leads)
footprint Ind10mm_XLGE1.2 (Thru-Hole; 2 Leads)
footprint Ind15mm_LGE1.0 (Thru-Hole; 2 Leads)
footprint Ind15mm_XLGE1.2 (Thru-Hole; 2 Leads)
footprint Ind20mm_LGE1.0 (Thru-Hole; 2 Leads)
footprint Ind20mm_XLGE1.2 (Thru-Hole; 2 Leads)
footprint Ind30mm_LGE1.0 (Thru-Hole; 2 Leads)
footprint Ind30mm_XLGE1.2 (Thru-Hole; 2 Leads)
pins: 1, 2

## G-LED
designator D?
Typical RED, GREEN, YELLOW, AMBER GaAs LED; Published: 8-Jun-2000; LatestRevisionDate: 17-Jul-2002; LatestRevisionNote: Re-released for DXP Platform.; PackageVersion: Feb-2002; PackageReference: 3.2X1.6X1.1; Publisher: Altium Limited
simulation model LED2 (Typ RED,GREEN,YELLOW,AMBER GaAs LED: Vf=2.1V Vr=4V If=40mA trr=3uS)
footprint LED_LGE1.0 (2.8 mm (typ))
footprint LED_SML0.8 (2.8 mm (typ))
pins: 1 A, 2 K

## G-Res
designator R?  value 1K
Resistor (specify value); Published: 8-Jun-2000; LatestRevisionDate: 29-May-2009; LatestRevisionNote: IPC-7351 Footprint Added.; PackageReference: J1-0603; Publisher: Altium Limited; PackageDescription: Chip Resistor
simulation model RESISTOR (Resistor)
signal-integrity model Res
footprint Res2.54mm_LGE1.0 (Resistor,Thru-Hole, Dipped Radial; Body 5.1 x 3.2 mm (WxT) Pin Spacing 2.54 mm (typ))
footprint Res2.54mm_SML0.8 (Resistor,Thru-Hole, Dipped Radial; Body 5.1 x 3.2 mm (WxT) Pin Spacing 2.54 mm (typ))
footprint Res10mm_LGE1.0 (Axial Device, Thru-Hole; 2 Leads; 0.4 in Pin Spacing)
footprint Res10mm_SML0.8 (Axial Device, Thru-Hole; 2 Leads; 0.4 in Pin Spacing)
footprint Res10mm_LGE1.0-BANDS (Axial Device, Thru-Hole; 2 Leads; 0.4 in Pin Spacing)
footprint Res10mm_SML0.8-BANDS (Axial Device, Thru-Hole; 2 Leads; 0.4 in Pin Spacing)
footprint Res10mm_LGE1.0-GENERIC (Axial Device, Thru-Hole; 2 Leads; 0.4 in Pin Spacing)
footprint Res10mm_SML0.8-GENERIC (Axial Device, Thru-Hole; 2 Leads; 0.4 in Pin Spacing)
pins: 1, 2

## M-8051Skt
designator U?
28-pin Microcontroller Socket (square); Published: 13-Oct-2000; LatestRevisionDate: 17-Jul-2002; LatestRevisionNote: Re-released for DXP Platform.; DatasheetVersion: 19-Mar-1998; PackageVersion: Oct-1998; PackageReference: ISDIP28; Publisher: Altium Limited; PackageDescription: DIP; 28 Rectangular Pins; Row Space 15.24 mm; Pitch 2.54 mm; ComponentLink1Description: Manufacturer Link; ComponentLink1URL: http://www.maxim-ic.com/; ComponentLink2Description: Datasheet; ComponentLink2URL: http://pdfserv.maxim-ic.com/en/ds/DS1213B.pdf; ComponentLink3Description: Discontinuation Notice; ComponentLink3URL: http://www.maxim-ic.com/qa/pdfs/non-obsolescence-letter.pdf; ComponentLink4URL: http://www.assmann.us/specs/A-CCS-0xx-Z-T.pdf; ComponentLink4Description: Datasheet (ELEC391)
footprint Square28_SML0.8_PAD0.6 (DIP; 28 Rectangular Pins; Row Space 7.62 mm; Pitch 2.54 mm)
footprint Square28_SML0.8_PAD0.8 (DIP; 28 Rectangular Pins; Row Space 7.62 mm; Pitch 2.54 mm)
pins: 1, 2, 3, 4, 5, 6, 7, 8, 9, 10, 11, 12, 13, 14, 15, 16, 17, 18, 19, 20, 21, 22, 23, 24, 25, 26, 27, 28

## M-SerDrv
designator U?
Serial Driver; Note: Receivers have typical hysteresis of 0.5V; Published: 15-May-2002; LatestRevisionDate: 04-Mar-2005; LatestRevisionNote: Stylized 3D Model Added.; DatasheetVersion: Jun-1989; PackageVersion: Oct-1995; PackageReference: N016; Publisher: Altium Limited; PackageDescription: DIP; 16 Leads; Row Spacing 7.62 mm; Pitch 2.54 mm; Code_JEDEC: MS-001-BB; ComponentLink1Description: Manufacturer Link; ComponentLink1URL: http://www.ti.com/; ComponentLink2Description: Datasheet; ComponentLink2URL: http://www-s.ti.com/sc/ds/max232.pdf; ComponentLink3URL: http://www.ti.com/lit/ds/symlink/max232.pdf; ComponentLink3Description: Datasheet (ELEC391)
footprint DIP16_LGE1.0 (DIP; 16 Leads; Row Spacing 7.62 mm; Pitch 2.54 mm)
footprint DIP16_SML0.8 (DIP; 16 Leads; Row Spacing 7.62 mm; Pitch 2.54 mm)
pins: 1 C1+, 2 VS+ (power), 3 C1-, 4 C2+, 5 C2-, 6 VS- (power), 7 T2~{OUT} (out), 8 R2IN (in), 9 R2~{OUT} (out), 10 T2IN (in), 11 T1IN (in), 12 R1~{OUT} (out), 13 R1IN (in), 14 T1~{OUT} (out), 15 GND (power), 16 VCC (power)

## O-InstAmp
designator U?
Instrument Amplifier; Published: 8-Jun-2000; LatestRevisionDate: 06-Jun-2005; LatestRevisionNote: Stylized 3D Model Added.; DatasheetVersion: Mar-1998; PackageVersion: revE; PackageReference: 006E; Publisher: Altium Limited; PackageDescription: DIP; 8 Leads; Row Spacing 7.62 mm; Pitch 2.54 mm; ComponentLink1Description: Manufacturer Link; ComponentLink1URL: http://www.ti.com/; ComponentLink2Description: Datasheet; ComponentLink2URL: http://www-s.ti.com/sc/ds/INA114.pdf; ComponentLink3URL: http://www.ti.com/lit/ds/symlink/ina126.pdf; ComponentLink3Description: Datasheet (ELEC391)
footprint DIP8_LGE1.0 (DIP, 8-Leads, Row Spacing 7.62mm, Pitch 2.54mm, Body 9.91x6.35mm)
footprint DIP8_SML0.8 (DIP, 8-Leads, Row Spacing 7.62mm, Pitch 2.54mm, Body 9.91x6.35mm)
pins: 1 RG, 2 IN- (in), 3 IN+ (in), 4 -V (power), 5 REF, 6 OUT (out), 7 +V (power), 8 RG

## O-OpAmp072
designator U?
Op-Amp (TL072); Published: 24-Aug-2001; LatestRevisionDate: 06-Jun-2005; LatestRevisionNote: Stylized 3D Model Added.; DatasheetVersion: Dec-1998; PackageReference: DIP8; Publisher: Altium Limited; PackageDescription: DIP; 8 Leads; Row Spacing 7.62 mm; Pitch 2.54 mm; Code_JEDEC: MO-001-AN; ComponentLink1Description: Manufacturer Link; ComponentLink1URL: http://www.st.com/; ComponentLink2Description: Datasheet; ComponentLink2URL: http://www.st.com/stonline/products/literature/ds/2298/tl072.pdf; ComponentLink3URL: http://media.digikey.com/pdf/Data%20Sheets/ST%20Microelectronics%20PDFS/TL072_A_B.pdf; ComponentLink3Description: Datasheet (ELEC391)
footprint DIP8_LGE1.0 (DIP, 8-Leads, Row Spacing 7.62mm, Pitch 2.54mm, Body 9.91x6.35mm)
footprint DIP8_SML0.8 (DIP, 8-Leads, Row Spacing 7.62mm, Pitch 2.54mm, Body 9.91x6.35mm)
simulation model TL072
pins on every part: 4 V- (power), 8 V+ (power)
part A pins: 1 OUT (out), 2 IN- (in), 3 IN+ (in)
part B pins: 5 IN+ (in), 6 IN- (in), 7 OUT (out)
part A text: A
part B text: B

## O-OpAmp074
designator U?
Op-Amp (TL074); Published: 24-Aug-2001; LatestRevisionDate: 06-Jun-2005; LatestRevisionNote: Stylized 3D Model Added.; DatasheetVersion: Dec-1998; PackageVersion: Jan-1997; PackageReference: DIP14; Publisher: Altium Limited; PackageDescription: DIP; 14 Leads; Row Spacing 7.62 mm; Pitch 2.54 mm; ComponentLink1Description: Manufacturer Link; ComponentLink1URL: http://www.st.com/; ComponentLink2Description: Datasheet; ComponentLink2URL: http://www.st.com/stonline/products/literature/ds/2297/tl074.pdf; ComponentLink3URL: http://media.digikey.com/pdf/Data%20Sheets/ST%20Microelectronics%20PDFS/TL074_A_B.pdf; ComponentLink3Description: Datasheet (ELEC391)
footprint DIP14_LGE1.0 (DIP; 14 Leads; Row Spacing 7.62 mm; Pitch 2.54 mm)
footprint DIP14_SML0.8 (DIP; 14 Leads; Row Spacing 7.62 mm; Pitch 2.54 mm)
simulation model TL074
pins on every part: 4 V+ (power), 11 V- (power)
part A pins: 1 OUT (out), 2 IN- (in), 3 IN+ (in)
part B pins: 5 IN+ (in), 6 IN- (in), 7 OUT (out)
part C pins: 8 OUT (out), 9 IN- (in), 10 IN+ (in)
part D pins: 12 IN+ (in), 13 IN- (in), 14 OUT (out)
part A text: A
part B text: B
part C text: C
part D text: D